# EAGLE library part CSI-SOCKET-30P (library vikc-connector)
CONN SOCKET F4S 30 POS 0.4mm Source: Datasheet <http://www3.panasonic.biz/ac/e_download/control/connector/base-fpc/catalog/con_eng_f4s.pdf>
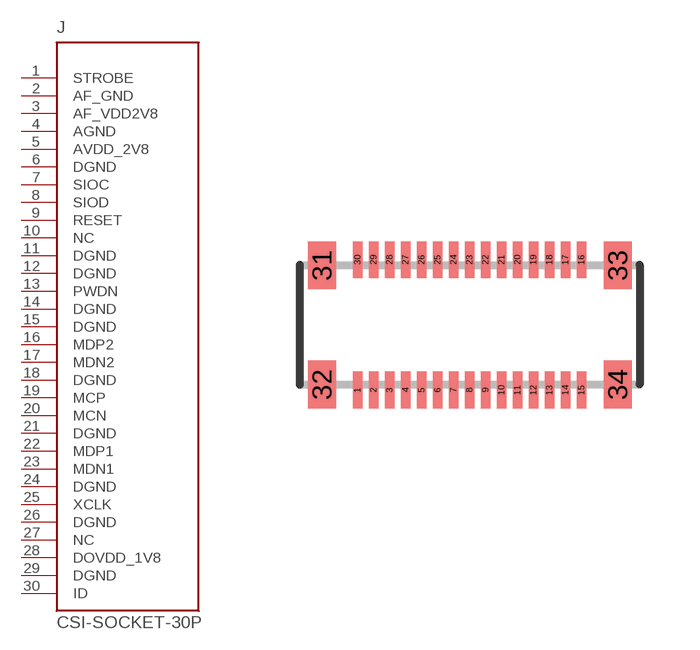
[diagram p7: symbol with the pads of AXT530124A_1; footprint AXT530124A_1]

Designator prefix J

## CSI-SOCKET-30P (ARROW_PART_NUMBER: AXT530124A; DESCRIPTION: CONN SOCKET F4S 30 POS 0.4mm; HEIGHT: mm; MANUFACTURER_NAME: Panasonic; MANUFACTURER_PART_NUMBER: AXT530124A)  [AXT530124A_1]
1  STROBE  nc
2  AF_GND
3  AF_VDD2V8
4  AGND
5  AVDD_2V8
6  DGND
7  SIOC
8  SIOD
9  RESET
10  NC  nc
11  DGND
12  DGND
13  PWDN
14  DGND
15  DGND
16  MDP2
17  MDN2
18  DGND
19  MCP
20  MCN
21  DGND
22  MDP1
23  MDN1
24  DGND
25  XCLK
26  DGND
27  NC  nc
28  DOVDD_1V8
29  DGND
30  ID

## Footprint AXT530124A_1 (pad centres in mm)
AXT530124A
smd 0.23 x 0.92: 1 -2.8,-1.63; 2 -2.4,-1.63; 3 -2,-1.63; 4 -1.6,-1.63; 5 -1.2,-1.63; 6 -0.8,-1.63; 7 -0.4,-1.63; 8 0,-1.63; 9 0.4,-1.63; 10 0.8,-1.63; 11 1.2,-1.63; 12 1.6,-1.63; 13 2,-1.63; 14 2.4,-1.63; 15 2.8,-1.63; 16 2.8,1.63; 17 2.4,1.63; 18 2,1.63; 19 1.6,1.63; 20 1.2,1.63; 21 0.8,1.63; 22 0.4,1.63; 23 0,1.63; 24 -0.4,1.63; 25 -0.8,1.63; 26 -1.2,1.63; 27 -1.6,1.63; 28 -2,1.63; 29 -2.4,1.63; 30 -2.8,1.63
smd 0.7 x 1.2: 31 -3.7,1.49; 32 -3.7,-1.49; 33 3.7,1.49; 34 3.7,-1.49